# Altium footprint library MSOP10-EP.PcbLib: 1 footprints
Each footprint in its own frame and in the unit in brackets; x right, y up, seen from the top. Pads: shape width x height; smd on the part's side, far side on the other; paste and mask are expansions set on the pad; w line width, h text height; cw(c..) or ccw(c..) is an arc to the next point about the centre after c.
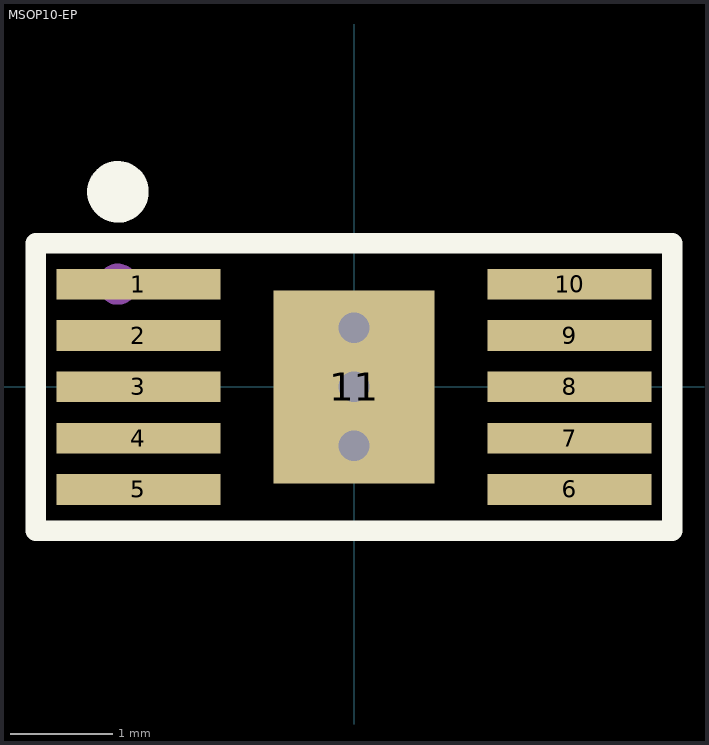
[diagram p0: the footprint, top view; thin cyan lines are the x and y axes]

## MSOP10-EP [mm]
pads (11):
  rect 1.6x0.3 smd: 1(-2.1,1) 2(-2.1,0.5) 3(-2.1,0) 4(-2.1,-0.5) 5(-2.1,-1) 6(2.1,-1) 7(2.1,-0.5) 8(2.1,0) 9(2.1,0.5) 10(2.1,1)
  rect 1.57x1.88 all layers, no hole: 11(0,0)
via 0,0 diameter 0.7 hole 0.3
via 0,-0.575 diameter 0.7 hole 0.3
via 0,0.575 diameter 0.7 hole 0.3
Top Overlay:
  circle w0.3: c-2.3,1.9 r0.15
  lines w0.2: -3.1,-1.4 -3.1,1.4 3.1,1.4 3.1,-1.4 -3.1,-1.4
Top Paste:
  region: -0.775,0.925 -0.775,-0.925 -0.2,-0.925 -0.2,0.925
  region: 0.2,0.925 0.2,-0.925 0.775,-0.925 0.775,0.925
Top Assembly:
  circle w0.2: c-2.3,1 r0.1
  lines w0.1: -3.1,-1.4 -3.1,1.4 3.1,1.4 3.1,-1.4 -3.1,-1.4
  text "'.Designator'" at -0.9,-0.35 h0.7
3D body "User Library-MSOP-10-1.step": height 1.05, standoff 0, extent -2.514,-1.5 2.514,1.5